# Altium schematic symbol library TLV70433DBVT.SchLib: 1 symbol
Pins are listed as number, name and electrical type; pins without a type are passive.

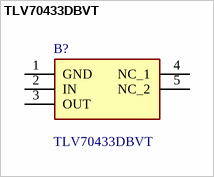
[diagram p0: symbol TLV70433DBVT]

## TLV70433DBVT
designator B?
24V Input Voltage, 150mA, Ultra-Low-Iq Low-Dropout (LDO) Regulators; Manufacturer_Name: Texas Instruments; Geometry.Height: 1.45mm; Mouser Part Number: 595-TLV70433DBVT; Mouser Price/Stock: https://www.mouser.co.uk/ProductDetail/Texas-Instruments/TLV70433DBVT?qs=Ze4%2FuFuz19IlUNeVVK7Mig%3D%3D; Manufacturer_Part_Number: TLV70433DBVT; Datasheet Link: http://www.ti.com/lit/gpn/tlv704
footprint SOT95P280X145-5N
pins: 1 GND, 2 IN, 3 OUT, 4 NC_1, 5 NC_2